# Altium footprint library Burr-Brown Footprints.PcbLib: 201 footprints (part 7 of 13)
Each footprint in its own frame and in the unit in brackets; x right, y up, seen from the top. Pads: shape width x height; smd on the part's side, far side on the other; paste and mask are expansions set on the pad; w line width, h text height; cw(c..) or ccw(c..) is an arc to the next point about the centre after c.
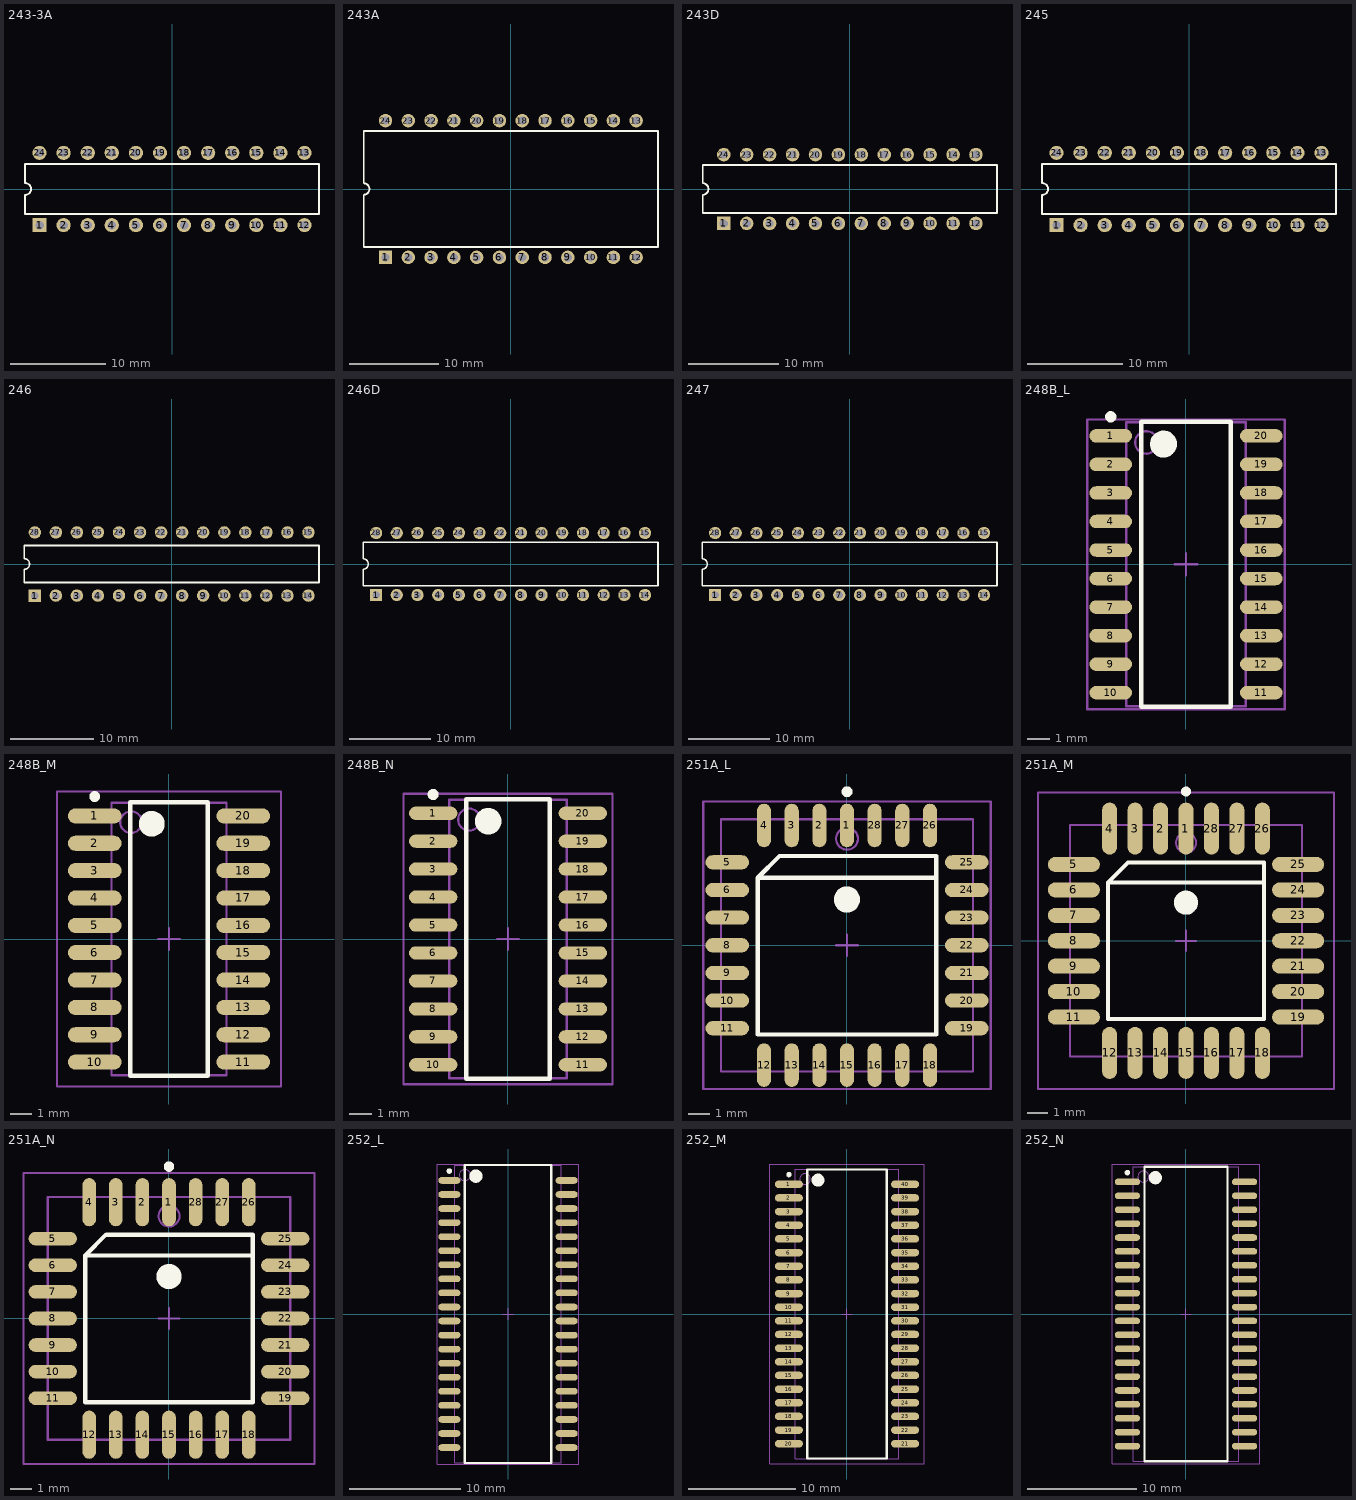
[diagram p6: the footprints below, top view; thin cyan lines are the x and y axes]

## 243-3A [mm] "DIP; 24 Leads; Row Spacing 7.62 mm; Pitch 2.54 mm"
height 5.33
pads (24):
  rect 1.5x1.5 hole 0.9: 1(-13.97,-3.81)
  round 1.5 hole 0.9: 2(-11.43,-3.81) 3(-8.89,-3.81) 4(-6.35,-3.81) 5(-3.81,-3.81) 6(-1.27,-3.81) 7(1.27,-3.81) 8(3.81,-3.81) 9(6.35,-3.81) 10(8.89,-3.81) 11(11.43,-3.81) 12(13.97,-3.81) 13(13.97,3.81) 14(11.43,3.81) 15(8.89,3.81) 16(6.35,3.81) 17(3.81,3.81) 18(1.27,3.81) 19(-1.27,3.81) 20(-3.81,3.81) 21(-6.35,3.81) 22(-8.89,3.81) 23(-11.43,3.81) 24(-13.97,3.81)
Top Overlay:
  lines w0.2: -15.5,-2.65 15.5,-2.65 15.5,2.65 -15.5,2.65 -15.5,0.635 cw(c-15.5,0) -15.5,-0.635 -15.5,-2.65

## 243A [mm] "DIP; 24 Leads; Row Spacing 15.24 mm; Pitch 2.54 mm"
height 5.7
pads (24):
  rect 1.5x1.5 hole 0.9: 1(-13.97,-7.62)
  round 1.5 hole 0.9: 2(-11.43,-7.62) 3(-8.89,-7.62) 4(-6.35,-7.62) 5(-3.81,-7.62) 6(-1.27,-7.62) 7(1.27,-7.62) 8(3.81,-7.62) 9(6.35,-7.62) 10(8.89,-7.62) 11(11.43,-7.62) 12(13.97,-7.62) 13(13.97,7.62) 14(11.43,7.62) 15(8.89,7.62) 16(6.35,7.62) 17(3.81,7.62) 18(1.27,7.62) 19(-1.27,7.62) 20(-3.81,7.62) 21(-6.35,7.62) 22(-8.89,7.62) 23(-11.43,7.62) 24(-13.97,7.62)
Top Overlay:
  lines w0.2: -16.4,-6.45 -16.4,-0.635 ccw(c-16.4,0) -16.4,0.635 -16.4,6.45 16.4,6.45 16.4,-6.45 -16.4,-6.45

## 243D [mm] "DIP; 24 Leads; Row Spacing 7.62 mm; Pitch 2.54 mm"
height 5.33
pads (24):
  rect 1.5x1.5 hole 0.9: 1(-13.97,-3.81)
  round 1.5 hole 0.9: 2(-11.43,-3.81) 3(-8.89,-3.81) 4(-6.35,-3.81) 5(-3.81,-3.81) 6(-1.27,-3.81) 7(1.27,-3.81) 8(3.81,-3.81) 9(6.35,-3.81) 10(8.89,-3.81) 11(11.43,-3.81) 12(13.97,-3.81) 13(13.97,3.81) 14(11.43,3.81) 15(8.89,3.81) 16(6.35,3.81) 17(3.81,3.81) 18(1.27,3.81) 19(-1.27,3.81) 20(-3.81,3.81) 21(-6.35,3.81) 22(-8.89,3.81) 23(-11.43,3.81) 24(-13.97,3.81)
Top Overlay:
  lines w0.2: -16.3,-2.65 16.3,-2.65 16.3,2.65 -16.3,2.65 -16.3,0.635 cw(c-16.3,0) -16.3,-0.635 -16.3,-2.65

## 245 [mm] "DIP; 24 Leads; Row Spacing 7.62 mm; Pitch 2.54 mm"
height 4.06
pads (24):
  rect 1.5x1.5 hole 0.9: 1(-13.97,-3.81)
  round 1.5 hole 0.9: 2(-11.43,-3.81) 3(-8.89,-3.81) 4(-6.35,-3.81) 5(-3.81,-3.81) 6(-1.27,-3.81) 7(1.27,-3.81) 8(3.81,-3.81) 9(6.35,-3.81) 10(8.89,-3.81) 11(11.43,-3.81) 12(13.97,-3.81) 13(13.97,3.81) 14(11.43,3.81) 15(8.89,3.81) 16(6.35,3.81) 17(3.81,3.81) 18(1.27,3.81) 19(-1.27,3.81) 20(-3.81,3.81) 21(-6.35,3.81) 22(-8.89,3.81) 23(-11.43,3.81) 24(-13.97,3.81)
Top Overlay:
  lines w0.2: -15.5,-2.65 15.5,-2.65 15.5,2.65 -15.5,2.65 -15.5,0.635 cw(c-15.5,0) -15.5,-0.635 -15.5,-2.65

## 246 [mm] "DIP; 28 Leads; Row Spacing 7.62 mm; Pitch 2.54 mm"
height 5.33
pads (28):
  rect 1.5x1.5 hole 0.9: 1(-16.51,-3.81)
  round 1.5 hole 0.9: 2(-13.97,-3.81) 3(-11.43,-3.81) 4(-8.89,-3.81) 5(-6.35,-3.81) 6(-3.81,-3.81) 7(-1.27,-3.81) 8(1.27,-3.81) 9(3.81,-3.81) 10(6.35,-3.81) 11(8.89,-3.81) 12(11.43,-3.81) 13(13.97,-3.81) 14(16.51,-3.81) 15(16.51,3.81) 16(13.97,3.81) 17(11.43,3.81) 18(8.89,3.81) 19(6.35,3.81) 20(3.81,3.81) 21(1.27,3.81) 22(-1.27,3.81) 23(-3.81,3.81) 24(-6.35,3.81) 25(-8.89,3.81) 26(-11.43,3.81) 27(-13.97,3.81) 28(-16.51,3.81)
Top Overlay:
  lines w0.2: -17.78,-2.225 -17.78,-0.635 ccw(c-17.78,0) -17.78,0.635 -17.78,2.225 17.78,2.225 17.78,-2.225 -17.78,-2.225

## 246D [mm] "DIP; 28 Leads; Row Spacing 7.62 mm; Pitch 2.54 mm"
height 5.33
pads (28):
  rect 1.5x1.5 hole 0.9: 1(-16.51,-3.81)
  round 1.5 hole 0.9: 2(-13.97,-3.81) 3(-11.43,-3.81) 4(-8.89,-3.81) 5(-6.35,-3.81) 6(-3.81,-3.81) 7(-1.27,-3.81) 8(1.27,-3.81) 9(3.81,-3.81) 10(6.35,-3.81) 11(8.89,-3.81) 12(11.43,-3.81) 13(13.97,-3.81) 14(16.51,-3.81) 15(16.51,3.81) 16(13.97,3.81) 17(11.43,3.81) 18(8.89,3.81) 19(6.35,3.81) 20(3.81,3.81) 21(1.27,3.81) 22(-1.27,3.81) 23(-3.81,3.81) 24(-6.35,3.81) 25(-8.89,3.81) 26(-11.43,3.81) 27(-13.97,3.81) 28(-16.51,3.81)
Top Overlay:
  lines w0.2: -18.1,-2.65 -18.1,-0.635 ccw(c-18.1,0) -18.1,0.635 -18.1,2.65 18.1,2.65 18.1,-2.65 -18.1,-2.65

## 247 [mm] "DIP; 28 Leads; Row Spacing 7.62 mm; Pitch 2.54 mm"
height 4.06
pads (28):
  rect 1.5x1.5 hole 0.9: 1(-16.51,-3.81)
  round 1.5 hole 0.9: 2(-13.97,-3.81) 3(-11.43,-3.81) 4(-8.89,-3.81) 5(-6.35,-3.81) 6(-3.81,-3.81) 7(-1.27,-3.81) 8(1.27,-3.81) 9(3.81,-3.81) 10(6.35,-3.81) 11(8.89,-3.81) 12(11.43,-3.81) 13(13.97,-3.81) 14(16.51,-3.81) 15(16.51,3.81) 16(13.97,3.81) 17(11.43,3.81) 18(8.89,3.81) 19(6.35,3.81) 20(3.81,3.81) 21(1.27,3.81) 22(-1.27,3.81) 23(-3.81,3.81) 24(-6.35,3.81) 25(-8.89,3.81) 26(-11.43,3.81) 27(-13.97,3.81) 28(-16.51,3.81)
Top Overlay:
  lines w0.2: -18.1,-2.65 -18.1,-0.635 ccw(c-18.1,0) -18.1,0.635 -18.1,2.65 18.1,2.65 18.1,-2.65 -18.1,-2.65

## 248B_L [mm] "20-Pin Small Outline Package 1.27 mm Pitch, IPC High Density"
height 1.96
pads (20):
  oval 1.9x0.6 smd: 1(-3.35,5.715) 2(-3.35,4.445) 3(-3.35,3.175) 4(-3.35,1.905) 5(-3.35,0.635) 6(-3.35,-0.635) 7(-3.35,-1.905) 8(-3.35,-3.175) 9(-3.35,-4.445) 10(-3.35,-5.715) 11(3.35,-5.715) 12(3.35,-4.445) 13(3.35,-3.175) 14(3.35,-1.905) 15(3.35,-0.635) 16(3.35,0.635) 17(3.35,1.905) 18(3.35,3.175) 19(3.35,4.445) 20(3.35,5.715)
Top Overlay:
  circle w0.25: c-3.35,6.565 r0.125
  circle w0.6: c-1,5.35 r0.3
  lines w0.2: -2,-6.35 -2,6.35 2,6.35 2,-6.35 -2,-6.35
Mechanical 13:
  circle w0.1: c-1.765,5.425 r0.5
  lines w0.1: -2.665,-6.325 -2.665,6.325 2.665,6.325 2.665,-6.325 -2.665,-6.325
Mechanical 15:
  lines w0.1: -0.5,0 0.5,0 ; 0,-0.5 0,0.5 ; -4.4,-6.45 -4.4,6.45 4.4,6.45 4.4,-6.45 -4.4,-6.45
3D body: height 1.96, standoff 0, extent -2.665,-6.325 2.665,6.325

## 248B_M [mm] "20-Pin Small Outline Package 1.27 mm Pitch, IPC Low Density"
height 1.96
pads (20):
  oval 2.5x0.7 smd: 1(-3.45,5.715) 2(-3.45,4.445) 3(-3.45,3.175) 4(-3.45,1.905) 5(-3.45,0.635) 6(-3.45,-0.635) 7(-3.45,-1.905) 8(-3.45,-3.175) 9(-3.45,-4.445) 10(-3.45,-5.715) 11(3.45,-5.715) 12(3.45,-4.445) 13(3.45,-3.175) 14(3.45,-1.905) 15(3.45,-0.635) 16(3.45,0.635) 17(3.45,1.905) 18(3.45,3.175) 19(3.45,4.445) 20(3.45,5.715)
Top Overlay:
  circle w0.6: c-0.8,5.35 r0.3
  circle w0.25: c-3.45,6.615 r0.125
  lines w0.2: -1.8,-6.35 1.8,-6.35 1.8,6.35 -1.8,6.35 -1.8,-6.35
Mechanical 13:
  circle w0.1: c-1.765,5.425 r0.5
  lines w0.1: -2.665,-6.325 2.665,-6.325 2.665,6.325 -2.665,6.325 -2.665,-6.325
Mechanical 15:
  lines w0.1: -0.5,0 0.5,0 ; 0,-0.5 0,0.5 ; -5.2,-6.85 5.2,-6.85 5.2,6.85 -5.2,6.85 -5.2,-6.85
3D body: height 1.96, standoff 0, extent -2.665,-6.325 2.665,6.325

## 248B_N [mm] "20-Pin Small Outline Package 1.27 mm Pitch, IPC Medium Density"
height 1.96
pads (20):
  oval 2.2x0.6 smd: 1(-3.4,5.715) 2(-3.4,4.445) 3(-3.4,3.175) 4(-3.4,1.905) 5(-3.4,0.635) 6(-3.4,-0.635) 7(-3.4,-1.905) 8(-3.4,-3.175) 9(-3.4,-4.445) 10(-3.4,-5.715) 11(3.4,-5.715) 12(3.4,-4.445) 13(3.4,-3.175) 14(3.4,-1.905) 15(3.4,-0.635) 16(3.4,0.635) 17(3.4,1.905) 18(3.4,3.175) 19(3.4,4.445) 20(3.4,5.715)
Top Overlay:
  circle w0.25: c-3.4,6.565 r0.125
  circle w0.6: c-0.9,5.35 r0.3
  lines w0.2: -1.9,-6.35 -1.9,6.35 1.9,6.35 1.9,-6.35 -1.9,-6.35
Mechanical 13:
  circle w0.1: c-1.765,5.425 r0.5
  lines w0.1: -2.665,-6.325 -2.665,6.325 2.665,6.325 2.665,-6.325 -2.665,-6.325
Mechanical 15:
  lines w0.1: -0.5,0 0.5,0 ; 0,-0.5 0,0.5 ; -4.75,-6.6 -4.75,6.6 4.75,6.6 4.75,-6.6 -4.75,-6.6
3D body: height 1.96, standoff 0, extent -2.665,-6.325 2.665,6.325

## 251A_L [mm] "28-Pin Leaded Chip Carrier 1.27 mm Pitch, IPC High Density"
height 4.57
pads (28):
  oval 0.65x2 smd: 1(0,5.5) 2(-1.27,5.5) 3(-2.54,5.5) 4(-3.81,5.5) 12(-3.81,-5.5) 13(-2.54,-5.5) 14(-1.27,-5.5) 15(0,-5.5) 16(1.27,-5.5) 17(2.54,-5.5) 18(3.81,-5.5) 26(3.81,5.5) 27(2.54,5.5) 28(1.27,5.5)
  oval 2x0.65 smd: 5(-5.5,3.81) 6(-5.5,2.54) 7(-5.5,1.27) 8(-5.5,0) 9(-5.5,-1.27) 10(-5.5,-2.54) 11(-5.5,-3.81) 19(5.5,-3.81) 20(5.5,-2.54) 21(5.5,-1.27) 22(5.5,0) 23(5.5,1.27) 24(5.5,2.54) 25(5.5,3.81)
Top Overlay:
  circle w0.25: c0,7.05 r0.125
  circle w0.6: c0,2.1 r0.3
  lines w0.2: 4.1,3.1 -4.1,3.1 ; -4.1,3.1 -3.1,4.1 4.1,4.1 4.1,-4.1 -4.1,-4.1 -4.1,3.1
Mechanical 13:
  circle w0.1: c0,4.89 r0.5
  lines w0.1: -5.79,-5.79 -5.79,5.79 5.79,5.79 5.79,-5.79 -5.79,-5.79
Mechanical 15:
  lines w0.1: -0.5,0 0.5,0 ; 0,-0.5 0,0.5 ; -6.6,-6.6 -6.6,6.6 6.6,6.6 6.6,-6.6 -6.6,-6.6
3D body: height 4.57, standoff 0, extent -5.79,-5.79 5.79,5.79

## 251A_M [mm] "28-Pin Leaded Chip Carrier 1.27 mm Pitch, IPC Low Density"
height 4.57
pads (28):
  oval 0.75x2.6 smd: 1(0,5.6) 2(-1.27,5.6) 3(-2.54,5.6) 4(-3.81,5.6) 12(-3.81,-5.6) 13(-2.54,-5.6) 14(-1.27,-5.6) 15(0,-5.6) 16(1.27,-5.6) 17(2.54,-5.6) 18(3.81,-5.6) 26(3.81,5.6) 27(2.54,5.6) 28(1.27,5.6)
  oval 2.6x0.75 smd: 5(-5.6,3.81) 6(-5.6,2.54) 7(-5.6,1.27) 8(-5.6,0) 9(-5.6,-1.27) 10(-5.6,-2.54) 11(-5.6,-3.81) 19(5.6,-3.81) 20(5.6,-2.54) 21(5.6,-1.27) 22(5.6,0) 23(5.6,1.27) 24(5.6,2.54) 25(5.6,3.81)
Top Overlay:
  circle w0.25: c0,7.45 r0.125
  circle w0.6: c0,1.9 r0.3
  lines w0.2: 3.9,2.9 -3.9,2.9 ; -3.9,2.9 -2.9,3.9 3.9,3.9 3.9,-3.9 -3.9,-3.9 -3.9,2.9
Mechanical 13:
  circle w0.1: c0,4.89 r0.5
  lines w0.1: -5.79,-5.79 -5.79,5.79 5.79,5.79 5.79,-5.79 -5.79,-5.79
Mechanical 15:
  lines w0.1: -0.5,0 0.5,0 ; 0,-0.5 0,0.5 ; -7.4,-7.4 -7.4,7.4 7.4,7.4 7.4,-7.4 -7.4,-7.4
3D body: height 4.57, standoff 0, extent -5.79,-5.79 5.79,5.79

## 251A_N [mm] "28-Pin Leaded Chip Carrier 1.27 mm Pitch, IPC Medium Density"
height 4.57
pads (28):
  oval 0.65x2.3 smd: 1(0,5.55) 2(-1.27,5.55) 3(-2.54,5.55) 4(-3.81,5.55) 12(-3.81,-5.55) 13(-2.54,-5.55) 14(-1.27,-5.55) 15(0,-5.55) 16(1.27,-5.55) 17(2.54,-5.55) 18(3.81,-5.55) 26(3.81,5.55) 27(2.54,5.55) 28(1.27,5.55)
  oval 2.3x0.65 smd: 5(-5.55,3.81) 6(-5.55,2.54) 7(-5.55,1.27) 8(-5.55,0) 9(-5.55,-1.27) 10(-5.55,-2.54) 11(-5.55,-3.81) 19(5.55,-3.81) 20(5.55,-2.54) 21(5.55,-1.27) 22(5.55,0) 23(5.55,1.27) 24(5.55,2.54) 25(5.55,3.81)
Top Overlay:
  circle w0.25: c0,7.25 r0.125
  circle w0.6: c0,2 r0.3
  lines w0.2: 4,3 -4,3 ; -4,3 -3,4 4,4 4,-4 -4,-4 -4,3
Mechanical 13:
  circle w0.1: c0,4.89 r0.5
  lines w0.1: -5.79,-5.79 -5.79,5.79 5.79,5.79 5.79,-5.79 -5.79,-5.79
Mechanical 15:
  lines w0.1: -0.5,0 0.5,0 ; 0,-0.5 0,0.5 ; -6.95,-6.95 -6.95,6.95 6.95,6.95 6.95,-6.95 -6.95,-6.95
3D body: height 4.57, standoff 0, extent -5.79,-5.79 5.79,5.79

## 252_L [mm] "40-Pin Small Outline Integrated Circuit 1.27 mm Pitch, IPC High Density"
height 2.7
pads (40):
  oval 2x0.6 smd: 1(-5.3,12.065) 2(-5.3,10.795) 3(-5.3,9.525) 4(-5.3,8.255) 5(-5.3,6.985) 6(-5.3,5.715) 7(-5.3,4.445) 8(-5.3,3.175) 9(-5.3,1.905) 10(-5.3,0.635) 11(-5.3,-0.635) 12(-5.3,-1.905) 13(-5.3,-3.175) 14(-5.3,-4.445) 15(-5.3,-5.715) 16(-5.3,-6.985) 17(-5.3,-8.255) 18(-5.3,-9.525) 19(-5.3,-10.795) 20(-5.3,-12.065) 21(5.3,-12.065) 22(5.3,-10.795) 23(5.3,-9.525) 24(5.3,-8.255) 25(5.3,-6.985) 26(5.3,-5.715) 27(5.3,-4.445) 28(5.3,-3.175) 29(5.3,-1.905) 30(5.3,-0.635) 31(5.3,0.635) 32(5.3,1.905) 33(5.3,3.175) 34(5.3,4.445) 35(5.3,5.715) 36(5.3,6.985) 37(5.3,8.255) 38(5.3,9.525) 39(5.3,10.795) 40(5.3,12.065)
Top Overlay:
  circle w0.25: c-5.3,12.915 r0.125
  circle w0.6: c-2.9,12.45 r0.3
  lines w0.2: -3.9,-13.45 -3.9,13.45 3.9,13.45 3.9,-13.45 -3.9,-13.45
Mechanical 13:
  circle w0.1: c-3.9,12.55 r0.5
  lines w0.1: -4.8,-13.45 -4.8,13.45 4.8,13.45 4.8,-13.45 -4.8,-13.45
Mechanical 15:
  lines w0.1: -0.5,0 0.5,0 ; 0,-0.5 0,0.5 ; -6.4,-13.55 -6.4,13.55 6.4,13.55 6.4,-13.55 -6.4,-13.55
3D body: height 2.7, standoff 0, extent -4.8,-13.45 4.8,13.45

## 252_M [mm] "40-Pin Small Outline Integrated Circuit 1.27 mm Pitch, IPC Low Density"
height 2.7
pads (40):
  oval 2.6x0.7 smd: 1(-5.4,12.065) 2(-5.4,10.795) 3(-5.4,9.525) 4(-5.4,8.255) 5(-5.4,6.985) 6(-5.4,5.715) 7(-5.4,4.445) 8(-5.4,3.175) 9(-5.4,1.905) 10(-5.4,0.635) 11(-5.4,-0.635) 12(-5.4,-1.905) 13(-5.4,-3.175) 14(-5.4,-4.445) 15(-5.4,-5.715) 16(-5.4,-6.985) 17(-5.4,-8.255) 18(-5.4,-9.525) 19(-5.4,-10.795) 20(-5.4,-12.065) 21(5.4,-12.065) 22(5.4,-10.795) 23(5.4,-9.525) 24(5.4,-8.255) 25(5.4,-6.985) 26(5.4,-5.715) 27(5.4,-4.445) 28(5.4,-3.175) 29(5.4,-1.905) 30(5.4,-0.635) 31(5.4,0.635) 32(5.4,1.905) 33(5.4,3.175) 34(5.4,4.445) 35(5.4,5.715) 36(5.4,6.985) 37(5.4,8.255) 38(5.4,9.525) 39(5.4,10.795) 40(5.4,12.065)
Top Overlay:
  circle w0.25: c-5.4,12.965 r0.125
  circle w0.6: c-2.7,12.45 r0.3
  lines w0.2: -3.7,-13.45 -3.7,13.45 3.7,13.45 3.7,-13.45 -3.7,-13.45
Mechanical 13:
  circle w0.1: c-3.9,12.55 r0.5
  lines w0.1: -4.8,-13.45 -4.8,13.45 4.8,13.45 4.8,-13.45 -4.8,-13.45
Mechanical 15:
  lines w0.1: -0.5,0 0.5,0 ; 0,-0.5 0,0.5 ; -7.2,-13.95 -7.2,13.95 7.2,13.95 7.2,-13.95 -7.2,-13.95
3D body: height 2.7, standoff 0, extent -4.8,-13.45 4.8,13.45

## 252_N [mm] "40-Pin Small Outline Integrated Circuit 1.27 mm Pitch, IPC Medium Density"
height 2.7
pads (40):
  oval 2.3x0.6 smd: 1(-5.35,12.065) 2(-5.35,10.795) 3(-5.35,9.525) 4(-5.35,8.255) 5(-5.35,6.985) 6(-5.35,5.715) 7(-5.35,4.445) 8(-5.35,3.175) 9(-5.35,1.905) 10(-5.35,0.635) 11(-5.35,-0.635) 12(-5.35,-1.905) 13(-5.35,-3.175) 14(-5.35,-4.445) 15(-5.35,-5.715) 16(-5.35,-6.985) 17(-5.35,-8.255) 18(-5.35,-9.525) 19(-5.35,-10.795) 20(-5.35,-12.065) 21(5.35,-12.065) 22(5.35,-10.795) 23(5.35,-9.525) 24(5.35,-8.255) 25(5.35,-6.985) 26(5.35,-5.715) 27(5.35,-4.445) 28(5.35,-3.175) 29(5.35,-1.905) 30(5.35,-0.635) 31(5.35,0.635) 32(5.35,1.905) 33(5.35,3.175) 34(5.35,4.445) 35(5.35,5.715) 36(5.35,6.985) 37(5.35,8.255) 38(5.35,9.525) 39(5.35,10.795) 40(5.35,12.065)
Top Overlay:
  circle w0.25: c-5.35,12.915 r0.125
  circle w0.6: c-2.8,12.45 r0.3
  lines w0.2: -3.8,-13.45 -3.8,13.45 3.8,13.45 3.8,-13.45 -3.8,-13.45
Mechanical 13:
  circle w0.1: c-3.9,12.55 r0.5
  lines w0.1: -4.8,-13.45 -4.8,13.45 4.8,13.45 4.8,-13.45 -4.8,-13.45
Mechanical 15:
  lines w0.1: -0.5,0 0.5,0 ; 0,-0.5 0,0.5 ; -6.75,-13.7 -6.75,13.7 6.75,13.7 6.75,-13.7 -6.75,-13.7
3D body: height 2.7, standoff 0, extent -4.8,-13.45 4.8,13.45